# EAGLE library part 691321300009 (library Wuerth_Elektronik_eiCan_Terminal_Blocks_v2.0)
WR-TBL Serie 321 - 3.81mm Vertical PCB Header , 9 Pins
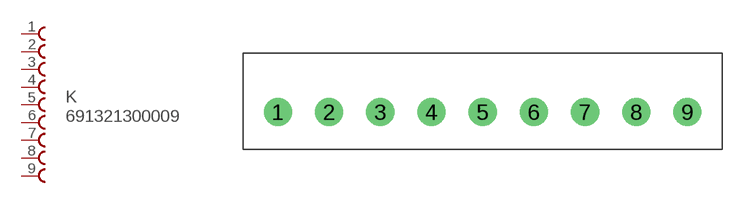
[diagram p20: symbol with the pads of 691321300009; footprint 691321300009]

Designator prefix K

## 691321300009  [691321300009]
1  1  pas
2  2  pas
3  3  pas
4  4  pas
5  5  pas
6  6  pas
7  7  pas
8  8  pas
9  9  pas

## Footprint 691321300009 (pad centres in mm)
WR-TBL Serie 321 - 3.81mm Vertical PCB Header , 9 Pins
drill 1.4 round: 1 -19.05,0; 2 -15.24,0; 3 -11.43,0; 4 -7.62,0; 5 -3.81,0; 6 0,0; 7 3.81,0; 8 7.62,0; 9 11.43,0